# Altium schematic symbol library Schlib1.SchLib: 3 symbols
Pins are listed as number, name and electrical type; pins without a type are passive.

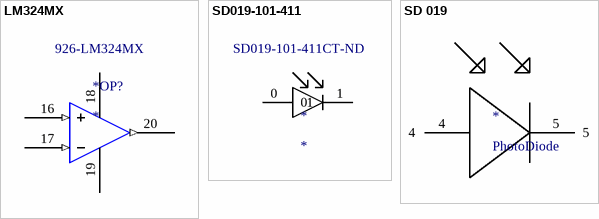
[diagram p0: symbols LM324MX to SD 019]

## LM324MX
designator *OP?  Supplier Part Number 1: 926-LM324MX
LM324A Series 1.5 mV Input Offset Quad Operational Amplifier - SOIC-14; Manufacturer: TI National Semiconductor; Manufacturer Part Number: LM324MX; Package Body Material: Plastic; Architecture: VOLTAGE-FEEDBACK; Bias Current-Max (IIB) @25C: 250nA; Common-mode Reject Ratio-Nom: 85dB; Frequency Compensation: YES; Input Offset Voltage-Max: 9mV; Low-Offset: No; Number of Functions: 4; Package Equivalence Code: SOP14,.25; Power Supplies: 5/30V; Max Supply Current: 1.2mA; Supply Voltage Limit-Max: 32V; Supply Voltage-Nom (Vsup): 5V; Voltage Gain-Min: 15000; Average Bias Current-Max (IIB): 500nA; Unity Gain BW-Nom: 1MHz; Neg Supply Voltage Limit-Max: 0V; Time @ Peak Reflow Temperature-Max (s): 30s; Common Mode Rejection Ratio-Min: 65dB; Slew Rate: 0.5V/µs; Qualification Status: Not Qualified; Supplier 1: Mouser; RoHS: No; Category: Amplifiers - Op Amps, Buffer, Instrumentation; Stock 1: 7; Pricing 1: 1=1.48, 10=1.26, 50=1.26, 100=0.966, 500=0.871, 1000=0.674, 2500=0.628, 10000=0.628 (USD); Package Code: SOP; Number of Pins: 14; Package Shape: Rectangular; Terminal Finish: Tin; Min Operating Temperature: 0°C; Max Operating Temperature: 70°C; Amplifier Type: OPERATIONAL AMPLIFIER; JESD-30 Code: R-PDSO-G14; Micropower: Yes; Package Style: SMALL OUTLINEMeter; Packaging: Tape and Reel; Surface Mount: Yes; Technology: BIPOLAR; Terminal Form: Gull Wing; Terminal Position: DUAL; JESD-609 Code: e0; Moisture Sensitivity Level: 1; Neg Supply Voltage-Nom (Vsup): 0V; Peak Reflow Temperature (Cel): 235°C; Length: 8.65mm; Width: 3.9mm; Height - Seated (Max): 1.75mm; Terminal Pitch: 1.27mm; Temperature Grade: COMMERCIAL; RoHS Compliant: No; Reach SVHC Compliant: No; ComponentLink1URL: https://datasheet.ciiva.com:443/pdfs/VipMasterIC/IC/NATL/NATLS09708/NATLS09708-1.pdf?src-supplier=IHS+Markit; ComponentLink1Description: https://datasheet.ciiva.com:443/pdfs/VipMasterIC/IC/NATL/NATLS09708/NATLS09708-1.pdf?src-supplier=IHS+Markit; ComponentLink2URL: https://datasheet.ciiva.com/13053/lm324-n-181092-13053361.pdf?src-supplier=Mouser; ComponentLink2Description: https://datasheet.ciiva.com/13053/lm324-n-181092-13053361.pdf?src-supplier=Mouser
pins: 16 (in), 17 (in), 18 (power), 19 (power), 20 (out)

## SD019-101-411
designator *  Supplier Part Number 1: SD019-101-411CT-ND
PHOTODIODE UV MICRO 0805 SMT; Manufacturer: Advanced Photonix; Manufacturer Part Number: SD019-101-411; Supplier 1: Digi-Key; RoHS: No; ComponentLink1URL: https://media.digikey.com/pdf/Data%20Sheets/Photonic%20Detetectors%20Inc%20PDFs/SD%20019-101-411.pdf?src-supplier=Digi-Key; ComponentLink1Description: https://media.digikey.com/pdf/Data%20Sheets/Photonic%20Detetectors%20Inc%20PDFs/SD%20019-101-411.pdf?src-supplier=Digi-Key
pins: 0, 1

## SD 019
designator *, comment PhotoDiode
pins: 4, 5